# EAGLE library part RN4_0804 (library rev1_lbr)
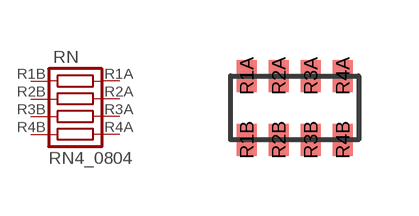
[diagram p5: symbol with the pads of 0804_RN; footprint 0804_RN]

Designator prefix RN

## RN4_0804  [0804_RN]
R1A  1A  pas
R1B  1  pas
R2A  2A  pas
R2B  2  pas
R3A  3A  pas
R3B  3  pas
R4A  4A  pas
R4B  4  pas

## Footprint 0804_RN (pad centres in mm)
smd 0.5 x 0.8: R1A -1.2,0.8; R1B -1.2,-0.8; R2A -0.4,0.8; R2B -0.4,-0.8; R3A 0.4,0.8; R3B 0.4,-0.8; R4A 1.2,0.8; R4B 1.2,-0.8